# Altium footprint library Connector.PcbLib: 28 footprints (part 2 of 2)
Each footprint in its own frame and in the unit in brackets; x right, y up, seen from the top. Pads: shape width x height; smd on the part's side, far side on the other; paste and mask are expansions set on the pad; w line width, h text height; cw(c..) or ccw(c..) is an arc to the next point about the centre after c.
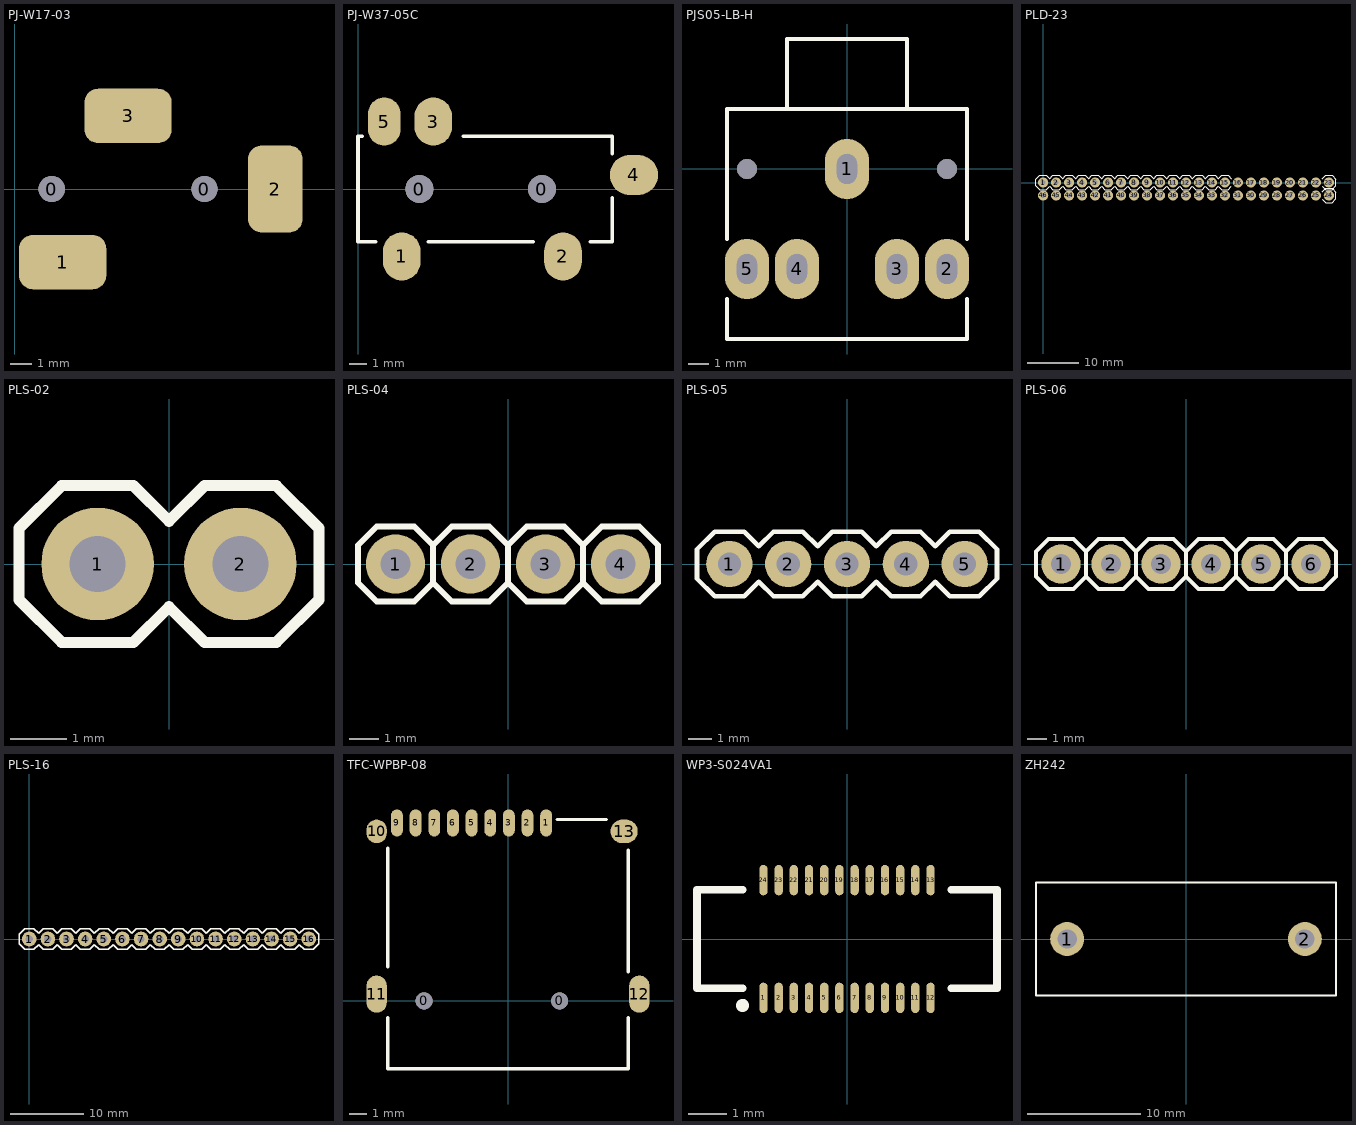
[diagram p1: the footprints below, top view; thin cyan lines are the x and y axes]

## PJ-W17-03 [mm]
pads (5):
  round 1.2 hole 1.2 unplated mask+0: 0(1.7,0) 0(8.7,0)
  rrect50% 4x2.5 smd mask+0.1: 1(2.2,-3.35) 3(5.2,3.35)
  rrect50% 2.5x4 smd mask+0.1: 2(11.95,0)
3D body: height 5.12, standoff -0.88, extent -2.5,-2.8 11.5,2.8

## PJ-W37-05C [mm]
pads (7):
  round 1.6 hole 1.6 unplated: 0(3.5,0) 0(10.5,0)
  oval 2.15x2.75 smd: 1(2.5,-3.85) 2(11.7,-3.85) 3(4.3,3.85)
  oval 2.75x2.3 smd: 4(15.75,0.8)
  oval 1.85x2.75 smd: 5(1.5,3.85)
Top Overlay:
  lines w0.2: 0.25,3 0,3 0,-3 1,-3 ; 4,-3 10,-3 ; 6,3 14.5,3 14.5,2 ; 13.25,-3 14.5,-3 14.5,-0.5
3D body: height 5.02, standoff -0.78, extent -2.5,-4.25 16.5,4.25

## PJS05-LB-H [mm]
pads (7):
  oval 2.2x3 hole 1 slot 1.5 at 90 deg mask+0: 1(0,0) 2(5,-5) 3(2.5,-5) 4(-2.5,-5) 5(-5,-5)
  round 1 hole 1 unplated: ""(-5,0) ""(5,0)
Top Overlay:
  lines w0.2: -6,-6.5 -6,-8.5 6,-8.5 6,-6.5 ; -6,-3.5 -6,3 6,3 6,-3.5 ; -3,3 -3,6.5 3,6.5 3,3
3D body: height 10.02, standoff -4.12, extent -6,-8.5 6,6.5

## PLD-23 [mm]
pads (46):
  round 2 hole 1: 1(0,0) 2(2.54,0) 3(5.08,0) 4(7.62,0) 5(10.16,0) 6(12.7,0) 7(15.24,0) 8(17.78,0) 9(20.32,0) 10(22.86,0) 11(25.4,0) 12(27.94,0) 13(30.48,0) 14(33.02,0) 15(35.56,0) 16(38.1,0)
  round 2 hole 1 unplated: 17(40.64,0) 18(43.18,0) 19(45.72,0) 20(48.26,0) 21(50.8,0) 22(53.34,0) 23(55.88,0) 24(55.88,-2.54) 25(53.34,-2.54) 26(50.8,-2.54) 27(48.26,-2.54) 28(45.72,-2.54) 29(43.18,-2.54) 30(40.64,-2.54) 31(38.1,-2.54) 32(35.56,-2.54) 33(33.02,-2.54) 34(30.48,-2.54) 35(27.94,-2.54) 36(25.4,-2.54) 37(22.86,-2.54) 38(20.32,-2.54) 39(17.78,-2.54) 40(15.24,-2.54) 41(12.7,-2.54) 42(10.16,-2.54) 43(7.62,-2.54) 44(5.08,-2.54) 45(2.54,-2.54) 46(0,-2.54)
Top Overlay:
  lines w0.2: 36.83,-0.762 36.195,-1.397 34.925,-1.397 34.29,-0.762 33.655,-1.397 32.385,-1.397 31.75,-0.762 31.115,-1.397 29.845,-1.397 29.21,-0.762 28.575,-1.397 27.305,-1.397 26.67,-0.762 26.035,-1.397 24.765,-1.397 24.13,-0.762 23.495,-1.397 22.225,-1.397 21.59,-0.762 20.955,-1.397 19.685,-1.397 19.05,-0.762 18.415,-1.397 17.145,-1.397 16.51,-0.762 15.875,-1.397 14.605,-1.397 13.97,-0.762 13.335,-1.397 12.065,-1.397 11.43,-0.762 10.795,-1.397 9.525,-1.397 8.89,-0.762 8.255,-1.397 6.985,-1.397 6.35,-0.762 5.715,-1.397 4.445,-1.397 3.81,-0.762 3.175,-1.397 1.905,-1.397 1.27,-0.762 0.635,-1.397 -0.635,-1.397 -1.397,-0.635 -1.397,0.635 -0.635,1.397 0.635,1.397 1.27,0.762 1.905,1.397 3.175,1.397 3.81,0.762 4.445,1.397 5.715,1.397 6.35,0.762 6.985,1.397 8.255,1.397 8.89,0.762 9.525,1.397 10.795,1.397 11.43,0.762 12.065,1.397 13.335,1.397 13.97,0.762 14.605,1.397 15.875,1.397 16.51,0.762 17.145,1.397 18.415,1.397 19.05,0.762 19.685,1.397 20.955,1.397 21.59,0.762 22.225,1.397 23.495,1.397 24.13,0.762 24.765,1.397 26.035,1.397 26.67,0.762 27.305,1.397 28.575,1.397 29.21,0.762 29.845,1.397 31.115,1.397 31.75,0.762 32.385,1.397 33.655,1.397 34.29,0.762 34.925,1.397 36.195,1.397 36.83,0.762 ; 54.61,-3.302 55.245,-3.937 56.515,-3.937 57.277,-3.175 57.277,-1.905 56.515,-1.143 55.245,-1.143 54.61,-1.778 ; 54.61,-0.762 55.245,-1.397 56.515,-1.397 57.277,-0.635 57.277,0.635 56.515,1.397 55.245,1.397 54.61,0.762

## PLS-02 [mm]
pads (2):
  round 2 hole 1: 1(-1.27,0) 2(1.27,0)
Top Overlay:
  lines w0.2: -2.667,-0.635 -1.905,-1.397 -0.635,-1.397 0,-0.762 0.635,-1.397 1.905,-1.397 2.667,-0.635 2.667,0.635 1.905,1.397 0.635,1.397 0,0.762 -0.635,1.397 -1.905,1.397 -2.667,0.635 -2.667,-0.635
3D body: height 8.45, standoff -2.99, extent -2.54,-1.27 2.54,1.27

## PLS-04 [mm]
pads (4):
  round 2 hole 1: 1(-3.81,0) 2(-1.27,0) 3(1.27,0) 4(3.81,0)
Top Overlay:
  lines w0.2: -2.54,-0.635 -1.905,-1.27 -0.635,-1.27 0,-0.635 ; -2.54,-0.635 -2.54,0.635 ; -2.54,-0.635 -3.175,-1.27 -4.445,-1.27 -5.08,-0.635 -5.08,0.635 -4.445,1.27 -3.175,1.27 -2.54,0.635 ; -2.54,0.635 -1.905,1.27 -0.635,1.27 0,0.635 ; 0,-0.635 0.635,-1.27 1.905,-1.27 2.54,-0.635 ; 0,-0.635 0,0.635 ; 0,0.635 0.635,1.27 1.905,1.27 2.54,0.635 ; 2.54,-0.635 3.175,-1.27 4.445,-1.27 5.08,-0.635 5.08,0.635 4.445,1.27 3.175,1.27 2.54,0.635 ; 2.54,-0.635 2.54,0.635
3D body: height 8.45, standoff -2.99, extent -5.08,-1.27 5.08,1.27

## PLS-05 [mm]
pads (5):
  round 2 hole 1: 1(-5.08,0) 2(-2.54,0) 3(0,0) 4(2.54,0) 5(5.08,0)
Top Overlay:
  lines w0.2: -6.477,-0.635 -6.477,0.635 -5.715,1.397 -4.445,1.397 -3.81,0.762 -3.175,1.397 -1.905,1.397 -1.27,0.762 -0.635,1.397 0.635,1.397 1.27,0.762 1.905,1.397 3.175,1.397 3.81,0.762 4.445,1.397 5.715,1.397 6.477,0.635 6.477,-0.635 5.715,-1.397 4.445,-1.397 3.81,-0.762 3.175,-1.397 1.905,-1.397 1.27,-0.762 0.635,-1.397 -0.635,-1.397 -1.27,-0.762 -1.905,-1.397 -3.175,-1.397 -3.81,-0.762 -4.445,-1.397 -5.715,-1.397 -6.477,-0.635
3D body: height 8.45, standoff -2.99, extent -6.35,-1.27 6.35,1.27

## PLS-06 [mm]
pads (6):
  round 2 hole 1: 1(-6.35,0) 2(-3.81,0) 3(-1.27,0) 4(1.27,0) 5(3.81,0) 6(6.35,0)
Top Overlay:
  lines w0.2: -5.08,-0.635 -5.715,-1.27 -6.985,-1.27 -7.62,-0.635 -7.62,0.635 -6.985,1.27 -5.715,1.27 -5.08,0.635 ; -5.08,-0.635 -5.08,0.635 ; -5.08,-0.635 -4.445,-1.27 -3.175,-1.27 -2.54,-0.635 ; -5.08,0.635 -4.445,1.27 -3.175,1.27 -2.54,0.635 ; -2.54,-0.635 -2.54,0.635 ; -2.54,-0.635 -1.905,-1.27 -0.635,-1.27 0,-0.635 ; -2.54,0.635 -1.905,1.27 -0.635,1.27 0,0.635 ; 0,-0.635 0,0.635 ; 0,-0.635 0.635,-1.27 1.905,-1.27 2.54,-0.635 ; 0,0.635 0.635,1.27 1.905,1.27 2.54,0.635 ; 2.54,-0.635 2.54,0.635 ; 2.54,-0.635 3.175,-1.27 4.445,-1.27 5.08,-0.635 ; 2.54,0.635 3.175,1.27 4.445,1.27 5.08,0.635 ; 5.08,-0.635 5.715,-1.27 6.985,-1.27 7.62,-0.635 7.62,0.635 6.985,1.27 5.715,1.27 5.08,0.635 ; 5.08,-0.635 5.08,0.635
3D body: height 8.45, standoff -2.99, extent -7.62,-1.27 7.62,1.27

## PLS-16 [mm]
pads (16):
  round 2 hole 1: 1(0,0) 2(2.54,0) 3(5.08,0) 4(7.62,0) 5(10.16,0) 6(12.7,0) 7(15.24,0) 8(17.78,0) 9(20.32,0) 10(22.86,0) 11(25.4,0) 12(27.94,0) 13(30.48,0) 14(33.02,0) 15(35.56,0) 16(38.1,0)
Top Overlay:
  lines w0.2: -1.397,-0.635 -0.635,-1.397 0.635,-1.397 1.27,-0.762 1.905,-1.397 3.175,-1.397 3.81,-0.762 4.445,-1.397 5.715,-1.397 6.35,-0.762 6.985,-1.397 8.255,-1.397 8.89,-0.762 9.525,-1.397 10.795,-1.397 11.43,-0.762 12.065,-1.397 13.335,-1.397 13.97,-0.762 14.605,-1.397 15.875,-1.397 16.51,-0.762 17.145,-1.397 18.415,-1.397 19.05,-0.762 19.685,-1.397 20.955,-1.397 21.59,-0.762 22.225,-1.397 23.495,-1.397 24.13,-0.762 24.765,-1.397 26.035,-1.397 26.67,-0.762 27.305,-1.397 28.575,-1.397 29.21,-0.762 29.845,-1.397 31.115,-1.397 31.75,-0.762 32.385,-1.397 33.655,-1.397 34.29,-0.762 34.925,-1.397 36.195,-1.397 36.83,-0.762 37.465,-1.397 38.735,-1.397 39.497,-0.635 39.497,0.635 38.735,1.397 37.465,1.397 36.83,0.762 36.195,1.397 34.925,1.397 34.29,0.762 33.655,1.397 32.385,1.397 31.75,0.762 31.115,1.397 29.845,1.397 29.21,0.762 28.575,1.397 27.305,1.397 26.67,0.762 26.035,1.397 24.765,1.397 24.13,0.762 23.495,1.397 22.225,1.397 21.59,0.762 20.955,1.397 19.685,1.397 19.05,0.762 18.415,1.397 17.145,1.397 16.51,0.762 15.875,1.397 14.605,1.397 13.97,0.762 13.335,1.397 12.065,1.397 11.43,0.762 10.795,1.397 9.525,1.397 8.89,0.762 8.255,1.397 6.985,1.397 6.35,0.762 5.715,1.397 4.445,1.397 3.81,0.762 3.175,1.397 1.905,1.397 1.27,0.762 0.635,1.397 -0.635,1.397 -1.397,0.635 -1.397,-0.635
3D body: height 8.55, standoff -2.99, extent -1.27,-1.245 39.37,1.245

## TFC-WPBP-08 [mm]
height 1.85
pads (15):
  round 1 hole 1 unplated mask+0.1: 0(-4.95,0) 0(3.05,0)
  oval 0.7x1.6 smd mask+0.1: 1(2.25,10.5) 2(1.15,10.5) 3(0.05,10.5) 4(-1.05,10.5) 5(-2.15,10.5) 6(-3.25,10.5) 7(-4.35,10.5) 8(-5.45,10.5) 9(-6.55,10.5)
  oval 1.2x1.4 smd mask+0.1: 10(-7.75,10)
  oval 1.2x2.2 smd mask+0.1: 11(-7.75,0.4) 12(7.75,0.4)
  oval 1.6x1.4 smd mask+0.1: 13(6.85,10)
Top Overlay:
  lines w0.2: -7.1,-1 -7.1,-4 7.1,-4 7.1,-1 ; -7.1,2 -7.1,9 ; 2.9,10.7 5.8,10.7 ; 7.1,1.7 7.1,8.9
3D body: height 1.87, standoff -0.58, extent -7.075,-6.2 7.075,10.7

## WP3-S024VA1 [mm]
pads (24):
  oval 0.22x0.8 smd: 1(-2.2,-1.55) 2(-1.8,-1.55) 3(-1.4,-1.55) 4(-1,-1.55) 5(-0.6,-1.55) 6(-0.2,-1.55) 7(0.2,-1.55) 8(0.6,-1.55) 9(1,-1.55) 10(1.4,-1.55) 11(1.8,-1.55) 12(2.2,-1.55) 13(2.2,1.55) 14(1.8,1.55) 15(1.4,1.55) 16(1,1.55) 17(0.6,1.55) 18(0.2,1.55) 19(-0.2,1.55) 20(-0.6,1.55) 21(-1,1.55) 22(-1.4,1.55) 23(-1.8,1.55) 24(-2.2,1.55)
Top Overlay:
  circle w0.2: c-2.75,-1.75 r0.071
  lines w0.2: -2.75,-1.3 -3.95,-1.3 -3.95,1.3 -2.75,1.3 ; 2.75,-1.3 3.95,-1.3 3.95,1.3 2.75,1.3
3D body: height 0.99, standoff -0.01, extent -3.95,-1.3 3.95,1.3

## ZH242 [mm]
pads (2):
  round 3 hole 1.7: 1(-10.5,0) 2(10.5,0)
Top Overlay:
  lines w0.2: -13.25,-5 13.25,-5 13.25,5 -13.25,5 -13.25,-5
3D body: height 13.41, standoff -2.99, extent -13.25,-4.9 13.25,4.9